# Altium schematic symbol library JACK35MM0617X05-4N.SchLib: 1 symbol
Pins are listed as number, name and electrical type; pins without a type are passive.

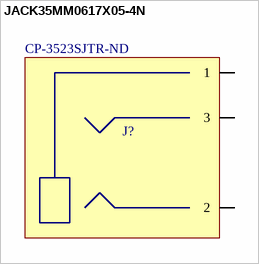
[diagram p0: symbol JACK35MM0617X05-4N]

## JACK35MM0617X05-4N
designator J?  Supplier Part Number 1: CP-3523SJTR-ND
Supplier 1: Digi-Key
footprint JACK35MM0617X05-4N
pins: 1, 2, 3